# EAGLE library part PIC24F04K201 (library _MyComponents)
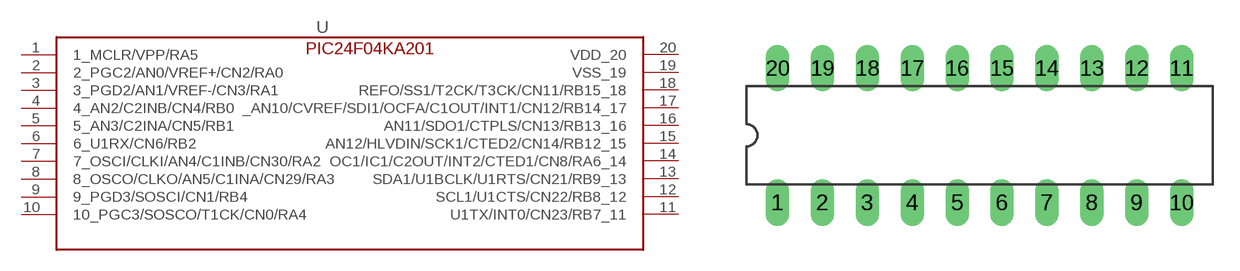
[diagram p2: symbol with the pads of DIL20; footprint DIL20]

Designator prefix U

## PIC24F04K201  [DIL20]
1  1_MCLR/VPP/RA5
2  2_PGC2/AN0/VREF+/CN2/RA0
3  3_PGD2/AN1/VREF-/CN3/RA1
4  4_AN2/C2INB/CN4/RB0
5  5_AN3/C2INA/CN5/RB1
6  6_U1RX/CN6/RB2
7  7_OSCI/CLKI/AN4/C1INB/CN30/RA2
8  8_OSCO/CLKO/AN5/C1INA/CN29/RA3
9  9_PGD3/SOSCI/CN1/RB4
10  10_PGC3/SOSCO/T1CK/CN0/RA4
11  U1TX/INT0/CN23/RB7_11
12  SCL1/U1CTS/CN22/RB8_12
13  SDA1/U1BCLK/U1RTS/CN21/RB9_13
14  OC1/IC1/C2OUT/INT2/CTED1/CN8/RA6_14
15  AN12/HLVDIN/SCK1/CTED2/CN14/RB12_15
16  AN11/SDO1/CTPLS/CN13/RB13_16
17  _AN10/CVREF/SDI1/OCFA/C1OUT/INT1/CN12/RB14_17
18  REFO/SS1/T2CK/T3CK/CN11/RB15_18
19  VSS_19
20  VDD_20

## Footprint DIL20 (pad centres in mm)
Dual In Line
drill 0.813 long: 1 -11.43,-3.81; 2 -8.89,-3.81; 3 -6.35,-3.81; 4 -3.81,-3.81; 5 -1.27,-3.81; 6 1.27,-3.81; 7 3.81,-3.81; 8 6.35,-3.81; 9 8.89,-3.81; 10 11.43,-3.81; 11 11.43,3.81; 12 8.89,3.81; 13 6.35,3.81; 14 3.81,3.81; 15 1.27,3.81; 16 -1.27,3.81; 17 -3.81,3.81; 18 -6.35,3.81; 19 -8.89,3.81; 20 -11.43,3.81